# EAGLE library part DRV8830 (library talons-actuation)
Texas Instruments DRV8830DGQR: Low-Voltage Motor Driver With SeriaL Interface Manufacturer <http://www.ti.com/product/drv8830> Octopart <https://octopart.com/drv8830evm-texas+instruments-20478207> Farnell.de <http://de.farnell.com/texas-instruments/drv8830dgqr/ic-motortreiber-h-bridge-10msop/dp/1863106>
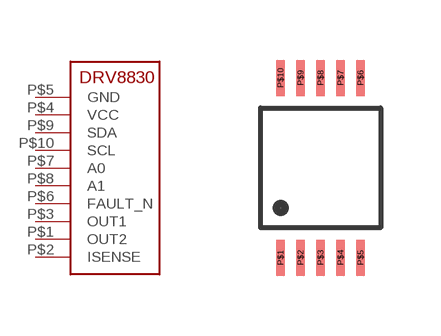
[diagram p0: symbol with the pads of MSOP-10; footprint MSOP-10]

Designator prefix -

## DRV8830  [MSOP-10]
P$1  OUT2  out
P$2  ISENSE
P$3  OUT1  out
P$4  VCC  pwr
P$5  GND  pwr
P$6  FAULT_N
P$7  A0  in
P$8  A1  in
P$9  SDA
P$10  SCL  in

## Footprint MSOP-10 (pad centres in mm)
smd 0.22 x 0.9: P$1 -1,-2.25; P$2 -0.5,-2.25; P$3 0,-2.25; P$4 0.5,-2.25; P$5 1,-2.25; P$6 1,2.25; P$7 0.5,2.25; P$8 0,2.25; P$9 -0.5,2.25; P$10 -1,2.25